# EAGLE library part QUASON_RELAY_1_CH (library wifi_switch)
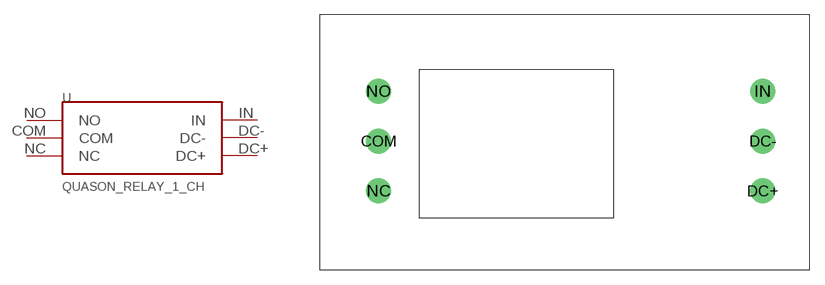
[diagram p0: symbol with the pads of QUASON_RELAY_1_CH; footprint QUASON_RELAY_1_CH]

Designator prefix U

## QUASON_RELAY_1_CH  [QUASON_RELAY_1_CH]
COM  COM
DC+  DC+
DC-  DC-
IN  IN
NC  NC
NO  NO

## Footprint QUASON_RELAY_1_CH (pad centres in mm)
drill 1.3 pad 2.54: COM 6.024,13.12; DC+ 45.2,8.04; DC- 45.2,13.12; IN 45.2,18.2; NC 6.024,8.04; NO 6.024,18.2